# Altium footprint library 我的PCB.PcbLib: 5 footprints
Each footprint in its own frame and in the unit in brackets; x right, y up, seen from the top. Pads: shape width x height; smd on the part's side, far side on the other; paste and mask are expansions set on the pad; w line width, h text height; cw(c..) or ccw(c..) is an arc to the next point about the centre after c.
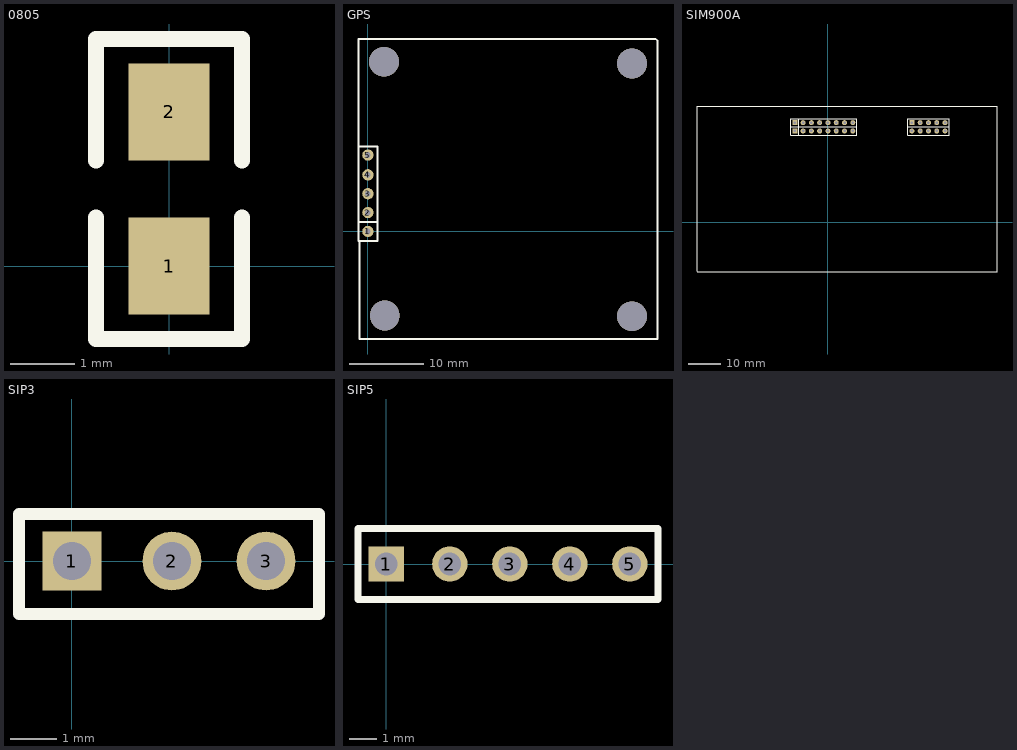
[diagram p0: the footprints below, top view; thin cyan lines are the x and y axes]

## 0805 [mil]
pads (2):
  rect 50x60 smd: 1(0,0) 2(0,95)
Top Overlay:
  lines w10: -45,30 -45,-45 -35,-45 45,-45 45,30 ; -45,65 -45,140 45,140 45,65

## GPS [mil]
pads (5):
  round 60 hole 30: 1(0,0) 2(0,100) 3(0,200) 4(0,300) 5(0,405)
via 1400,-450 diameter 157.48 hole 157.48
via 90,-445 diameter 157.48 hole 157.48
via 1400,890 diameter 157.48 hole 157.48
via 85,900 diameter 157.48 hole 157.48
Top Overlay:
  lines w10: -45,50 50,50 ; -50,-50 -45,-55 -45,-570 1535,-570 1535,1010 1525,1020 -50,1020 -50,450 ; -50,-50 50,-50 50,450 -50,450 ; -50,-50 -50,450

## SIM900A [mil]
height 35.43
pads (26):
  rect 60x60 hole 30: 0(-395,1200) 8(-395,1100) 16(1018,1200)
  round 60 hole 30: 1(-295,1200) 2(-195,1200) 3(-95,1200) 4(5,1200) 5(105,1200) 6(205,1200) 7(305,1200) 9(-295,1100) 10(-195,1100) 11(-95,1100) 12(5,1100) 13(105,1100) 14(205,1100) 15(305,1100) 17(1118,1200) 18(1218,1200) 19(1318,1200) 20(1418,1200) 21(1018,1100) 22(1118,1100) 23(1218,1100) 24(1318,1100) 25(1418,1100)
Top Overlay:
  lines w10: -1575,-600 2045,-600 2045,330 ; -1575,-595 -1575,1200 -1575,1400 -745,1400 1855,1400 ; -445,1150 355,1150 ; -395,1400 1855,1400 ; -345,1050 -345,1150 -345,1250 ; 968,1150 1468,1150 ; 2045,320 2045,1400 1855,1400 ; -445,1050 -445,1250 355,1250 355,1050 -445,1050 ; 968,1050 1468,1050 1468,1250 968,1250 968,1050

## SIP3 [mil]
pads (3):
  rect 50x50 hole 32: 1(0,0)
  round 50 hole 32: 2(85,0) 3(165,0)
Top Overlay:
  lines w10: -45,-45 -45,40 210,40 210,-45 200,-45 -45,-45

## SIP5 [mil]
pads (5):
  rect 50x50 hole 32: 1(0,0)
  round 50 hole 32: 2(90,0) 3(175,0) 4(260,0) 5(345,0)
Top Overlay:
  lines w10: -40,-50 -40,50 385,50 385,-50 -40,-50